# Altium schematic symbol library PBL - Capacitors.SCHLIB: 89 symbols (part 1 of 2)
Pins are listed as number, name and electrical type; pins without a type are passive.

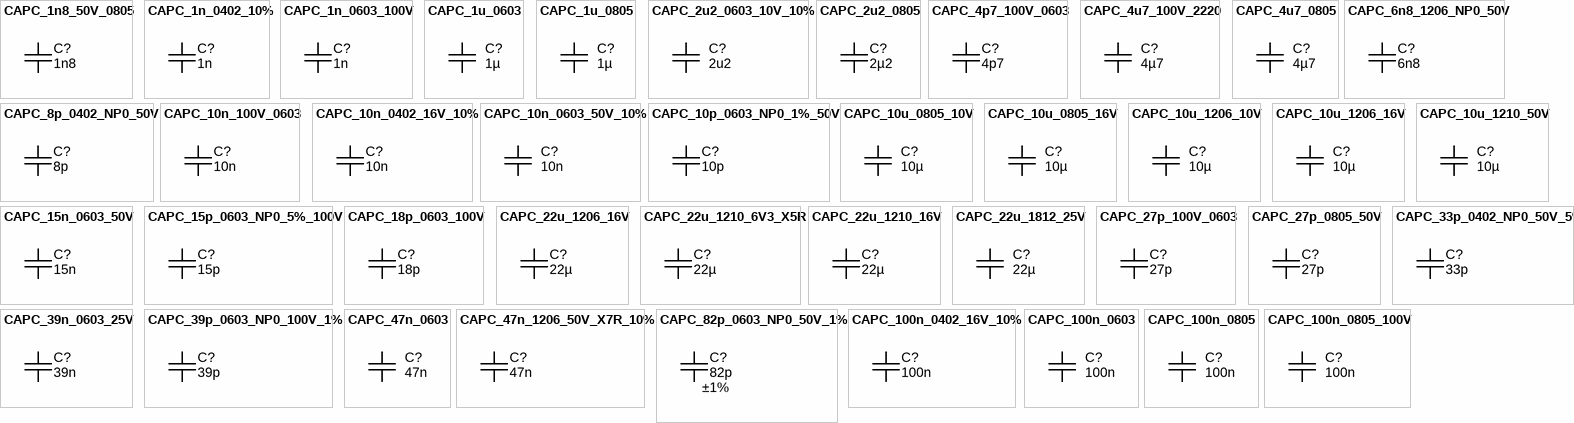
[diagram p0: symbols CAPC_1n8_50V_0805 to CAPC_100n_0805_100V]

## CAPC_1n8_50V_0805
designator C?, comment value 1n8  (hidden comment: approved sub OK)
Capacitor SMD Cer 1.8nF 10% 50V X7R 0805; Manufacturer 1: AVX Corporation; Manufacturer Part Number 1: 08055C182KAT2A; Ratings: 50V; X7R; Tolerance: ±10%; Operating Temperature: -55°C ~ 125°C; Package / Case: 0805 (2012 metric); Supplier 1: Digi-Key; Supplier Part Number 1: 478-1374-1-ND
footprint CAPC2012N (Chip Capacitor, Body 2.0x1.2mm, 0805, IPC Medium Density)
pins: 1, 2

## CAPC_1n_0402_10%
designator C?, comment 1n
Capacitor SMD Cer 1nF 10% 16V X7R 0402; Manufacturer 1: AVX Corporation; Manufacturer Part Number 1: 0402YC102KAT2A; Ratings: 16V; X7R; Tolerance: ±10%; Operating Temperature: -55°C ~ 125°C; Package / Case: 0402 (1005 Metric); Size / Dimension: 0.039" L x 0.020" W (1.00mm x 0.50mm); Manufacturer 2: Yageo; Manufacturer Part Number 2: CC0402KRX7R7BB102; Supplier 1: Digi-Key; Supplier Part Number 1: 478-6197-1-ND; ComponentLink1URL: http://www.avx.com/docs/Catalogs/cx7r.pdf; ComponentLink1Description: http://www.avx.com/docs/Catalogs/cx7r.pdf; Supplier 2: Digi-Key; Supplier Part Number 2: 311-1352-1-ND; ComponentLink2URL: http://www.yageo.com/documents/recent/UPY-GPHC_X7R_6.3V-to-50V_8.pdf; ComponentLink2Description: http://www.yageo.com/documents/recent/UPY-GPHC_X7R_6.3V-to-50V_8.pdf; Value: 1n
footprint CAPC1005N (Chip Capacitor, Body 1.0x0.5mm, 0402, IPC Medium Density)
pins: 1, 2

## CAPC_1n_0603_100V
designator C?, comment value 1n  (hidden comment: approved sub OK)
Capacitor SMD Cer 1nF 10% 100V X7R 0603; Manufacturer 1: Murata Electronics North America; Manufacturer Part Number 1: GCM188R72A102KA37D; Ratings: 100V; X7R; Material: ceramic; Package / Case: 0603 (1608 metric); Tolerance: ±10%; Supplier 1: Digi-Key; Supplier Part Number 1: 490-4780-1-ND; Operating Temperature: -55°C ~ 125°C; Size / Dimension: 0.063" L x 0.031" W (1.60mm x 0.80mm); Thickness (Max): 0.035" (0.90mm); ComponentLink1URL: http://search.murata.co.jp/Ceramy/image/img/PDF/ENG/GCM188R72A102KA37.pdf; ComponentLink1Description: http://search.murata.co.jp/Ceramy/image/img/PDF/ENG/GCM188R72A102KA37.pdf
footprint CAPC1608N (Chip Capacitor, Body 1.6x0.8mm, 0603, IPC Medium Density)
pins: 1, 2

## CAPC_1u_0603
designator C?, comment value 1µ  (hidden comment: approved sub OK)
Capacitor SMD Cer 1uF 10% 16V X7R 0603; Manufacturer 1: TDK Corporation; Manufacturer Part Number 1: C1608X7R1C105K; Ratings: 16V; X7R; Material: ceramic; Package / Case: 0603 (1608 metric); Tolerance: ±10%; Supplier 1: Digi-Key; Supplier Part Number 1: 445-1604-1-ND
footprint CAPC1608N (Chip Capacitor, Body 1.6x0.8mm, IPC Medium Density)
pins: 1, 2

## CAPC_1u_0805
designator C?, comment value 1µ  (hidden comment: approved sub OK)
Capacitor SMD Cer 1uF 10% 16V X7R 0805; Manufacturer 1: TDK Corporation; Manufacturer Part Number 1: C2012X7R1C105K/1.25; Ratings: 16V; X7R; Material: ceramic; Package / Case: 0805 (2012 metric); Tolerance: ±10%; Supplier 1: Digi-Key; Supplier Part Number 1: 445-1358-1-ND
footprint CAPC2012N (Chip Capacitor, Body 2.0x1.2mm, 0805, IPC Medium Density)
pins: 1, 2

## CAPC_2u2_0603_10V_10%
designator C?, comment value 2u2  (hidden comment: approved sub OK)
Capacitor SMD Cer 2.2uF 10% 10V X5R 0603; Manufacturer 1: AVX Corporation; Manufacturer Part Number 1: 0603ZD225KAT2A; Ratings: 10V; X5R; Material: ceramic; Package / Case: 0603 (1608 metric); Tolerance: ±10%; Supplier 1: Digi-Key; Supplier Part Number 1: 478-6212-1-ND; ComponentLink1URL: http://www.avx.com/docs/Catalogs/cx5r.pdf; ComponentLink1Description: http://www.avx.com/docs/Catalogs/cx5r.pdf
footprint CAPC1608N (Chip Capacitor, Body 1.6x0.8mm, 0603, IPC Medium Density)
pins: 1, 2

## CAPC_2u2_0805
designator C?, comment value 2µ2  (hidden comment: approved sub OK)
Capacitor SMD Cer 2.2uF 10% 16V X7R 0805; Manufacturer 1: Kemet; Manufacturer Part Number 1: C0805C225K4RACTU; Ratings: 16V; X7R; Supplier 1: Digi-Key; Supplier Part Number 1: 399-3523-1-ND; Tolerance: ±10%; Package / Case: 0805 (2012 metric)
footprint CAPC2012N (Chip Capacitor, Body 2.0x1.2mm, 0805, IPC Medium Density)
pins: 1, 2

## CAPC_4p7_100V_0603
designator C?, comment value 4p7  (hidden comment: approved sub OK)
Capacitor SMD Cer 4.7pF ±0.25pF 100V NP0 0603; Manufacturer 1: AVX Corporation; Manufacturer Part Number 1: 06031A4R7CAT2A; Ratings: 100V; NP0; Tolerance: ±0.25pF; Operating Temperature: -55°C ~ 125°C; Package / Case: 0603 (1608 metric); Supplier 1: Digi-Key; Supplier Part Number 1: 478-4992-1-ND
footprint CAPC1608N (Chip Capacitor, Body 1.6x0.8mm, 0603, IPC Medium Density)
pins: 1, 2

## CAPC_4u7_100V_2220
designator C?, comment value 4µ7  (hidden comment: approved sub OK)
Capacitor SMD Cer 4.7uF 10% 100V X7R 2220; Manufacturer: TDK Corporation; Manufacturer Part Number: C5750X7R2A475K; Ratings: 100V; X7R; Material: ceramic; Package / Case: 2220 (5750 Metric); Tolerance: ±10%; Supplier 1: Digi-Key; Supplier Part Number 1: 445-4526-1-ND
footprint CAPC5750N (Chip Capacitor, Body 5.7x5.0mm, 2220, IPC Medium Density)
pins: 1, 2

## CAPC_4u7_0805
designator C?, comment value 4µ7  (hidden comment: approved sub OK)
Capacitor SMD Cer 4.7uF 10% 16V X5R 0805; Manufacturer 1: Taiyo Yuden; Manufacturer Part Number 1: EMK212BJ475KG-T; Ratings: 16V; X5R; Material: ceramic; Package / Case: 0805 (2012 Metric); Tolerance: ±10%; Supplier 1: Digi-Key; Supplier Part Number 1: 587-1294-1-ND; Operating Temperature: -55°C ~ 85°C; Size / Dimension: 0.079" L x 0.049" W (2.00mm x 1.25mm); Thickness (Max): 0.053" (1.35mm); ComponentLink1URL: http://www.yuden.co.jp/productdata/catalog/en/mlcc01_e.pdf; ComponentLink1Description: http://www.yuden.co.jp/productdata/catalog/en/mlcc01_e.pdf
footprint CAPC2012N (Chip Capacitor, Body 2.0x1.2mm, 0805, IPC Medium Density)
pins: 1, 2

## CAPC_6n8_1206_NP0_50V
designator C?, comment 6n8
Capacitor SMD Cer 6.8nF 5% 50V NP0 1206; Manufacturer 1: TDK Corporation; Manufacturer Part Number 1: C3216C0G1H682J/0.60; Ratings: 50V; NP0; Material: Ceramic NP0; Tolerance: ±5%; Package / Case: 1206 (3216 metric); Supplier 1: Digi-Key; Supplier Part Number 1: 445-4005-1-ND; Value: 6n8
footprint CAPC3216N (Chip Capacitor, Body 3.2x1.6mm, 1206, IPC Medium Density)
pins: 1, 2

## CAPC_8p_0402_NP0_50V
designator C?, comment 8p
Capacitor SMD Cer 8pF ±0.5pF 50V NP0 0402; Manufacturer 1: Murata Electronics North America; Manufacturer Part Number 1: GRM1555C1H8R0DA01D; Ratings: 50V; NP0; Tolerance: ±0.5pF; Operating Temperature: -55°C ~ 125°C; Package / Case: 0402 (1005 Metric); Size / Dimension: 0.039" L x 0.020" W (1.00mm x 0.50mm); Supplier 1: Digi-Key; Supplier Part Number 1: 490-5867-1-ND; Supplier 2: Digi-Key; Supplier Part Number 2: 04025A8R0JAT2A-ND; Manufacturer 2: AVX Corporation; Manufacturer Part Number 2: 04025A8R0JAT2A; ComponentLink2URL: http://www.avx.com/docs/Catalogs/ccog.pdf; ComponentLink2Description: http://www.avx.com/docs/Catalogs/ccog.pdf; ComponentLink1URL: http://search.murata.co.jp/Ceramy/image/img/w_hinm/L0005E.pdf; ComponentLink1Description: http://search.murata.co.jp/Ceramy/image/img/w_hinm/L0005E.pdf; Value: 8p
footprint CAPC1005N (Chip Capacitor, Body 1.0x0.5mm, 0402, IPC Medium Density)
pins: 1, 2

## CAPC_10n_100V_0603
designator C?, comment value 10n  (hidden comment: approved sub OK)
Capacitor SMD Cer 10nF 10% 100V X7R 0603; Manufacturer: Murata Electronics North America; Manufacturer Part Number: GCM188R72A103KA37D; Ratings: 100V; X7R; Material: ceramic; Package / Case: 0603 (1608 metric); Tolerance: ±10%; Supplier 1: Digi-Key; Supplier Part Number 1: 490-4781-1-ND
footprint CAPC1608N (Chip Capacitor, Body 1.6x0.8mm, 0603, IPC Medium Density)
pins: 1, 2

## CAPC_10n_0402_16V_10%
designator C?, comment 10n
Capacitor SMD Cer 10nF 10% 16V X7R 0402; Manufacturer 1: AVX Corporation; Manufacturer Part Number 1: 0402YC103KAT2A; Ratings: 16V; X7R; Tolerance: ±10%; Operating Temperature: -55°C ~ 125°C; Package / Case: 0402 (1005 Metric); Size / Dimension: 0.039" L x 0.020" W (1.00mm x 0.50mm); Manufacturer 2: Yageo; Manufacturer Part Number 2: CC0402KRX7R7BB103; Supplier 1: Digi-Key; Supplier Part Number 1: 478-1114-1-ND; ComponentLink1URL: http://www.avx.com/docs/Catalogs/cx7r.pdf; ComponentLink1Description: http://www.avx.com/docs/Catalogs/cx7r.pdf; Supplier 2: Digi-Key; Supplier Part Number 2: 311-1042-1-ND; ComponentLink2URL: http://www.yageo.com/documents/recent/UPY-GPHC_X7R_6.3V-to-50V_8.pdf; ComponentLink2Description: http://www.yageo.com/documents/recent/UPY-GPHC_X7R_6.3V-to-50V_8.pdf; Value: 10n
footprint CAPC1005N (Chip Capacitor, Body 1.0x0.5mm, 0402, IPC Medium Density)
pins: 1, 2

## CAPC_10n_0603_50V_10%
designator C?, comment value 10n  (hidden comment: approved sub OK)
Capacitor SMD Cer 10nF 10% 50V X7R 0603; Manufacturer 1: TDK Corporation; Manufacturer Part Number 1: C1608X7R1H103K; Ratings: 50V; X7R; Material: ceramic; Package / Case: 0603 (1608 metric); Tolerance: ±10%; Supplier 1: Digi-Key; Supplier Part Number 1: 445-1311-1-ND
footprint CAPC1608N (Chip Capacitor, Body 1.6x0.8mm, 0603, IPC Medium Density)
pins: 1, 2

## CAPC_10p_0603_NP0_1%_50V
designator C?, comment 10p
Capacitor SMD Cer 10pF 5% 50V NP0 0603; Manufacturer 1: Murata Electronics North America; Manufacturer Part Number 1: GRM1885C1H100FA01J; Ratings: 50V; NP0; Tolerance: ±5%; Operating Temperature: -55°C ~ 125°C; Package / Case: 0603 (1608 Metric); Size / Dimension: 0.063" L x 0.032" W (1.60mm x 0.81mm); Thickness (Max): 0.035" (0.90mm); Supplier 1: Digi-Key; Supplier Part Number 1: GRM1885C1H100FA01J-ND; Value: 10p
footprint CAPC1608N (Chip Capacitor, Body 1.6x0.8mm, 0603, IPC Medium Density)
pins: 1, 2

## CAPC_10u_0805_10V
designator C?, comment value 10µ  (hidden comment: approved sub OK)
Capacitor SMD Cer 10uF 10% 10V X5R 0805; Manufacturer 1: AVX Corporation; Manufacturer Part Number 1: 0805ZD106KAT2A; Ratings: 10V; X5R; Material: ceramic; Package / Case: 0805 (2012 metric); Tolerance: ±10%; Manufacturer 2: Kemet; Manufacturer Part Number 2: C0805C106K8PACTU; Supplier 1: Digi-Key; Supplier Part Number 1: 478-5167-1-ND; ComponentLink1URL: http://www.avx.com/docs/Catalogs/cx5r.pdf; ComponentLink1Description: http://www.avx.com/docs/Catalogs/cx5r.pdf; ComponentLink2URL: http://www.kemet.com/datasheets&C0805C106K8PACTU; ComponentLink2Description: http://www.kemet.com/datasheets&C0805C106K8PACTU; Supplier 2: Digi-Key; Supplier Part Number 2: 399-4925-1-ND
footprint CAPC2012N (Chip Capacitor, Body 2.0x1.2mm, 0805, IPC Medium Density)
pins: 1, 2

## CAPC_10u_0805_16V
designator C?, comment value 10µ  (hidden comment: approved sub OK)
Capacitor SMD Cer 10uF 10% 16V X7R 0805; Manufacturer 1: Samsung; Manufacturer Part Number 1: CL21B106KBN; Ratings: 16V; X7R; Material: ceramic; Package / Case: 0805 (2012 metric); Tolerance: ±10%
footprint CAPC1608N (Chip Capacitor, Body 1.6x0.8mm, IPC Medium Density)
footprint CAPC3216N (Chip Capacitor, Body 3.2x1.6mm, IPC Medium Density)
footprint CAPC2012N (Chip Capacitor, Body 2.0x1.2mm, 0805, IPC Medium Density)
pins: 1, 2

## CAPC_10u_1206_10V
designator C?, comment value 10µ  (hidden comment: approved sub OK)
Capacitor SMD Cer 10uF 10% 10V X5R 1206; Manufacturer 1: KEMET; Manufacturer Part Number 1: C1206C106K8PACTU; Ratings: 10V; X5R; Material: ceramic; Package / Case: 1206 (3216 metric); Tolerance: ±10%; Supplier 1: Digi-Key; Supplier Part Number 1: C1206C106K8PACTU-ND
footprint CAPC3216N (Chip Capacitor, Body 3.2x1.6mm, 1206, IPC Medium Density)
pins: 1, 2

## CAPC_10u_1206_16V
designator C?, comment value 10µ  (hidden comment: approved sub OK)
Capacitor SMD Cer 10uF 10% 16V X7R 1206; Manufacturer 1: Kemet; Manufacturer Part Number 1: C1206C106K4RACTU; Ratings: 16V; X7R; Material: ceramic; Package / Case: 1206 (3216 metric); Tolerance: ±10%; Supplier 1: Digi-Key; Supplier Part Number 1: 399-3525-1-ND
footprint CAPC3216N (Chip Capacitor, Body 3.2x1.6mm, 1206, IPC Medium Density)
pins: 1, 2

## CAPC_10u_1210_50V
designator C?, comment 10µ
Capacitor SMD Cer 10uF 20% 16V X5R 1210; Manufacturer 1: Taiyo Yuden; Manufacturer Part Number 1: UMK325BJ106MM-T; Ratings: 50V; X5R; Material: ceramic; Package / Case: 1210 (3225 Metric); Tolerance: ±20%; Size / Dimension: 0.126" L x 0.098" W (3.20mm x 2.50mm); Supplier 1: Digi-Key; Supplier Part Number 1: 587-2225-1-ND; Value: 10µ
footprint CAPC3225N (Chip Capacitor, Body 3.2x2.5mm, 1210, IPC Medium Density)
pins: 1, 2

## CAPC_15n_0603_50V
designator C?, comment value 15n  (hidden comment: approved sub OK)
Capacitor SMD Cer 15nF 10% 50V X7R 0603; Manufacturer Part Number 1: GRM188R71H153KA01D; Manufacturer 1: Murata Electronics North America; Ratings: 50V; X7R; Tolerance: ±10%; Operating Temperature: -55°C ~ 125°C; Package / Case: 0603 (1608 metric); Supplier 1: Digi-Key; Supplier Part Number 1: 490-1514-1-ND
footprint CAPC1608N (Chip Capacitor, Body 1.6x0.8mm, 0603, IPC Medium Density)
pins: 1, 2

## CAPC_15p_0603_NP0_5%_100V
designator C?, comment 15p
Capacitor SMD Cer 15pF 5% 100V NP0 0603; Manufacturer 1: AVX Corporation; Manufacturer Part Number 1: 06031A150JAT2A; Ratings: 100V; NP0; Tolerance: ±5%; Operating Temperature: -55°C ~ 125°C; Package / Case: 0603 (1608 Metric); Size / Dimension: 0.063" L x 0.032" W (1.60mm x 0.81mm); Thickness (Max): 0.035" (0.90mm); Supplier 1: Digi-Key; Supplier Part Number 1: 478-1141-1-ND; Mounting Type: Surface Mount, MLCC; ComponentLink1URL: http://www.avx.com/docs/Catalogs/ccog.pdf; ComponentLink1Description: http://www.avx.com/docs/Catalogs/ccog.pdf; Value: 15p
footprint CAPC1608N (Chip Capacitor, Body 1.6x0.8mm, 0603, IPC Medium Density)
pins: 1, 2

## CAPC_18p_0603_100V
designator C?, comment 18p
Capacitor SMD Cer 18pF 2% 100V NP0 0603; Manufacturer 1: AVX Corporation; Manufacturer Part Number 1: 06031A180GAT2A; Ratings: 100V; NP0; Tolerance: ±2%; Operating Temperature: -55°C ~ 125°C; Package / Case: 0603 (1608 Metric); Supplier 1: Digi-Key; Supplier Part Number 1: 478-6025-1-ND; Size / Dimension: 0.063" L x 0.032" W (1.60mm x 0.81mm); Thickness (Max): 0.035" (0.90mm); ComponentLink1URL: http://www.avx.com/docs/Catalogs/ccog.pdf; ComponentLink1Description: http://www.avx.com/docs/Catalogs/ccog.pdf; Value: 18p
footprint CAPC1608N (Chip Capacitor, Body 1.6x0.8mm, 0603, IPC Medium Density)
pins: 1, 2

## CAPC_22u_1206_16V
designator C?, comment value 22µ  (hidden comment: approved sub OK)
Capacitor SMD Cer 22uF 10% 16V X7R 1206; Manufacturer 1: Murata; Manufacturer Part Number 1: GRM319R71C224KA01D; Ratings: 16V; X7R; Tolerance: ±10%; Package / Case: 1206 (3216 metric); Supplier 1: Mouser; Supplier Part Number 1: 81-GRM426X224K016D
footprint CAPC3216N (Chip Capacitor, Body 3.2x1.6mm, 1206, IPC Medium Density)
pins: 1, 2

## CAPC_22u_1210_6V3_X5R
designator C?, comment value 22µ  (hidden comment: approved sub OK)
Capacitor SMD Cer 22uF 20% 6.3V X5R 1210; Manufacturer 1: TDK Corporation; Manufacturer Part Number 1: C3225X5R0J226M/2.00; Ratings: 6.3V; X5R; Voltage - Rated: 6V3; Tolerance: ±20%; Package / Case: 1210 (3225 metric); Supplier 1: Digi-Key; Supplier Part Number 1: 445-1595-1-ND; Mounting Type: Surface Mount, MLCC; Operating Temperature: -55°C ~ 85°C; Thickness (Max): 0.087" (2.20mm); ComponentLink1URL: http://www.tdk.com/pdf/general_B11.pdf; ComponentLink1Description: http://www.tdk.com/pdf/general_B11.pdf
footprint CAPC3225N (Chip Capacitor, Body 3.2x2.5mm, 1210, IPC Medium Density)
pins: 1, 2

## CAPC_22u_1210_16V
designator C?, comment value 22µ  (hidden comment: approved sub OK)
Capacitor SMD Cer 22uF 20% 16V X7R 1210; Manufacturer: TDK Corporation; Manufacturer Part Number: C3225X7R1C226K; Ratings: 16V; X7R; Tolerance: ±20%; Package / Case: 1210 (3225 metric); Supplier 1: Digi-Key; Supplier Part Number 1: 445-3945-2-ND
footprint CAPC3225N (Chip Capacitor, Body 3.2x2.5mm, 1210, IPC Medium Density)
pins: 1, 2

## CAPC_22u_1812_25V
designator C?, comment value 22µ  (hidden comment: approved sub OK)
Capacitor SMD Cer 22uF 20% 25V X5R 1812; Manufacturer 1: TDK Corporation; Manufacturer Part Number 1: C4532X5R1E226M; Ratings: 25V; X5R; Material: ceramic; Package / Case: 1812 (4532 metric); Tolerance: ±20%; Supplier 1: Digi-Key; Supplier Part Number 1: 445-1444-1-ND
footprint CAPC4532N (Chip Capacitor, Body 4.5x3.2mm, 1812, IPC Medium Density)
pins: 1, 2

## CAPC_27p_100V_0603
designator C?, comment 27p
Capacitor SMD Cer 27pF 1% 100V NP0 0603; Manufacturer 1: AVX Corporation; Manufacturer Part Number 1: 06031A270FAT2A; Ratings: 100V; NP0; Tolerance: ±1%; Operating Temperature: -55°C ~ 125°C; Package / Case: 0603 (1608 Metric); Supplier 1: Digi-Key; Supplier Part Number 1: 478-3681-1-ND; Value: 27p
footprint CAPC1608N (Chip Capacitor, Body 1.6x0.8mm, 0603, IPC Medium Density)
pins: 1, 2

## CAPC_27p_0805_50V
designator C?, comment value 27p  (hidden comment: approved sub OK)
Capacitor SMD Cer 27pF 5% 50V X7R 0805; Manufacturer 1: Panasonic - ECG; Manufacturer Part Number 1: ECJ-2VC1H270J; Ratings: 50V; X7R; Tolerance: ±5%; Operating Temperature: -55°C ~ 125°C; Package / Case: 0805 (2012 metric); Supplier 1: Digi-Key; Supplier Part Number 1: PCC270CGCT-ND
footprint CAPC2012N (Chip Capacitor, Body 2.0x1.2mm, 0805, IPC Medium Density)
pins: 1, 2

## CAPC_33p_0402_NP0_50V_5%
designator C?, comment 33p
Capacitor SMD Cer 33pF 5% 50V NP0 0402; Manufacturer 1: AVX Corporation; Manufacturer Part Number 1: 04025A330JAT2A; Ratings: 50V; NP0; Tolerance: ±5%; Operating Temperature: -55°C ~ 125°C; Package / Case: 0402 (1005 Metric); Size / Dimension: 0.039" L x 0.020" W (1.00mm x 0.50mm); Manufacturer 2: Yageo; Manufacturer Part Number 2: CC0402JRNPO9BN330; Thickness (Max): 0.022" (0.55mm); Supplier 1: Digi-Key; Supplier Part Number 1: 478-1076-1-ND; ComponentLink1URL: http://www.avx.com/docs/Catalogs/ccog.pdf; ComponentLink1Description: http://www.avx.com/docs/Catalogs/ccog.pdf; ComponentLink2URL: http://www.yageo.com/documents/recent/UPY-GP_NP0_16V-to-50V_8.pdf; ComponentLink2Description: http://www.yageo.com/documents/recent/UPY-GP_NP0_16V-to-50V_8.pdf; Supplier 2: Digi-Key; Supplier Part Number 2: 311-1020-1-ND; Value: 33p
footprint CAPC1005N (Chip Capacitor, Body 1.0x0.5mm, 0402, IPC Medium Density)
pins: 1, 2

## CAPC_39n_0603_25V
designator C?, comment value 39n  (hidden comment: approved sub OK)
Capacitor SMD Cer 39nF 10% 25V X7R 0603; Manufacturer 1: Kemet; Manufacturer Part Number 1: C0603C393K3RACTU; Ratings: 100V; X7R; Material: ceramic; Package / Case: 0603 (1608 Metric); Tolerance: ±10%; Supplier 1: Digi-Key; Operating Temperature: -55°C ~ 125°C; Size / Dimension: 0.063" L x 0.031" W (1.60mm x 0.80mm); Thickness (Max): 0.035" (0.90mm); Temperature Coefficient: X7R; Voltage - Rated: 25V; Supplier Part Number 1: 399-7914-1-ND
footprint CAPC1608N (Chip Capacitor, Body 1.6x0.8mm, 0603, IPC Medium Density)
pins: 1, 2

## CAPC_39p_0603_NP0_100V_1%
designator C?, comment 39p
Capacitor SMD Cer 39pF 1% 100V NP0 0603; Manufacturer 1: AVX Corporation; Manufacturer Part Number 1: 06031A390FAT2A; Ratings: 100V; NP0; Tolerance: ±1%; Operating Temperature: -55°C ~ 125°C; Package / Case: 0603 (1608 Metric); Supplier 1: Digi-Key; Supplier Part Number 1: 478-5773-1-ND; Value: 39p
footprint CAPC1608N (Chip Capacitor, Body 1.6x0.8mm, 0603, IPC Medium Density)
pins: 1, 2

## CAPC_47n_0603
designator C?, comment 47n
Capacitor SMD Cer 47nF 10% 50V X7R 0603; Manufacturer 1: Samsung; Manufacturer Part Number 1: CL10B473KBN; Ratings: 50V; X7R; Material: ceramic; Package / Case: 0603 (1608 metric); Tolerance: ±10%; Value: 47n
footprint CAPC1608N (Chip Capacitor, Body 1.6x0.8mm, IPC Medium Density)
footprint CAPC3216N (Chip Capacitor, Body 3.2x1.6mm, IPC Medium Density)
footprint CAPC2012N (Chip Capacitor, Body 2.0x1.2mm, IPC Medium Density)
pins: 1, 2

## CAPC_47n_1206_50V_X7R_10%
designator C?, comment 47n
Capacitor SMD Cer 47nF 10% 50V 1206; Manufacturer 1: Yageo; Manufacturer Part Number 1: CC1206KRX7R9BB473; Ratings: 50V; X7R; Package / Case: 1206 (3216 Metric); Tolerance: ±10%; Operating Temperature: -55°C ~ 125°C; Size / Dimension: 0.126" L x 0.063" W (3.20mm x 1.60mm); Supplier 1: Digi-Key; Voltage - Rated: 50V; Supplier Part Number 1: 311-1178-1-ND; Value: 47n
footprint CAPC3216N (Chip Capacitor, Body 3.2x1.6mm, 1206, IPC Medium Density)
pins: 1, 2

## CAPC_82p_0603_NP0_50V_1%
designator C?, comment Tolerance: ±1%  (hidden comment: 82p)
Capacitor SMD Cer 82pF 1% 50V NP0 0603; Manufacturer 1: Kemet; Manufacturer Part Number 1: C0603C820F5GACTU; Ratings: 50V; NP0; Operating Temperature: -55°C ~ 125°C; Package / Case: 0603 (1608 Metric); Size / Dimension: 0.063" L x 0.031" W (1.60mm x 0.80mm); Thickness (Max): 0.034" (0.87mm); Supplier 1: Digi-Key; Supplier Part Number 1: 399-7959-1-ND; ComponentLink1URL: http://www.kemet.com/datasheets&C0603C820F5GACTU; ComponentLink1Description: http://www.kemet.com/datasheets&C0603C820F5GACTU; Value: 82p
footprint CAPC1608N (Chip Capacitor, Body 1.6x0.8mm, 0603, IPC Medium Density)
pins: 1, 2

## CAPC_100n_0402_16V_10%
designator C?, comment 100n
Capacitor SMD Cer 100nF 10% 16V X5R 0402; Manufacturer 1: AVX Corporation; Manufacturer Part Number 1: 0402YD104KAT2A; Ratings: 16V; X7R; Tolerance: ±10%; Operating Temperature: -55°C ~ 125°C; Package / Case: 0402 (1005 Metric); Size / Dimension: 0.039" L x 0.020" W (1.00mm x 0.50mm); Supplier 1: Digi-Key; Supplier Part Number 1: 478-1126-1-ND; ComponentLink1URL: http://www.avx.com/docs/Catalogs/cx5r.pdf; ComponentLink1Description: http://www.avx.com/docs/Catalogs/cx5r.pdf; Supplier 2: Digi-Key; Supplier Part Number 2: 311-1347-1-ND; Manufacturer 2: Yageo; Manufacturer Part Number 2: CC0402KRX5R7BB104; ComponentLink2URL: http://www.yageo.com/documents/recent/UPY-GPHC_X5R_4V-to-50V_12.pdf; ComponentLink2Description: http://www.yageo.com/documents/recent/UPY-GPHC_X5R_4V-to-50V_12.pdf; Value: 100n
footprint CAPC1005N (Chip Capacitor, Body 1.0x0.5mm, 0402, IPC Medium Density)
pins: 1, 2

## CAPC_100n_0603
designator C?, comment value 100n  (hidden comment: approved sub OK)
Capacitor SMD Cer 100nF 10% 50V X7R 0603; Manufacturer 1: AVX Corporation; Manufacturer Part Number 1: 06035C104KAT2A; Ratings: 50V; X7R; Material: ceramic; Manufacturer 2: TDK Corporation; Manufacturer Part Number 2: C1608X7R1H104K; Package / Case: 0603 (1608 Metric); Tolerance: ±10%; Supplier 1: Digi-Key; Supplier Part Number 1: 478-5052-1-ND; ComponentLink1URL: http://www.avx.com/docs/Catalogs/cx7r.pdf; ComponentLink1Description: http://www.avx.com/docs/Catalogs/cx7r.pdf; Supplier 2: Digi-Key; Supplier Part Number 2: 445-1314-1-ND; ComponentLink2URL: http://product.tdk.com/capacitor/mlcc/en/documents/mlcc_commercial_general_en.pdf; ComponentLink2Description: http://product.tdk.com/capacitor/mlcc/en/documents/mlcc_commercial_general_en.pdf
footprint CAPC1608N (Chip Capacitor, Body 1.6x0.8mm, 0603, IPC Medium Density)
pins: 1, 2

## CAPC_100n_0805
designator C?, comment value 100n  (hidden comment: approved sub OK)
Capacitor SMD Cer 100nF 10% 50V X7R 0805; Manufacturer 1: Kemet; Manufacturer Part Number 1: C0805C104K5RACTU; Ratings: 50V; X7R; Material: ceramic; Package / Case: 0805 (2012 metric); Tolerance: ±10%; Supplier 1: Digi-Key; Supplier Part Number 1: 399-1170-1-ND
footprint CAPC1608N (Chip Capacitor, Body 1.6x0.8mm, IPC Medium Density)
footprint CAPC3216N (Chip Capacitor, Body 3.2x1.6mm, IPC Medium Density)
footprint CAPC2012N (Chip Capacitor, Body 2.0x1.2mm, IPC Medium Density)
pins: 1, 2

## CAPC_100n_0805_100V
designator C?, comment value 100n  (hidden comment: approved sub OK)
Capacitor SMD Cer 100nF 10% 100V X7R 0805; Manufacturer 1: TDK Corporation; Manufacturer Part Number 1: C2012X7R2A104K; Ratings: 100V; X7R; Material: ceramic; Package / Case: 0805; Tolerance: ±10%; Supplier 1: Digi-Key; Supplier Part Number 1: 445-1418-1-ND
footprint CAPC2012N (Chip Capacitor, Body 2.0x1.2mm, IPC Medium Density)
pins: 1, 2

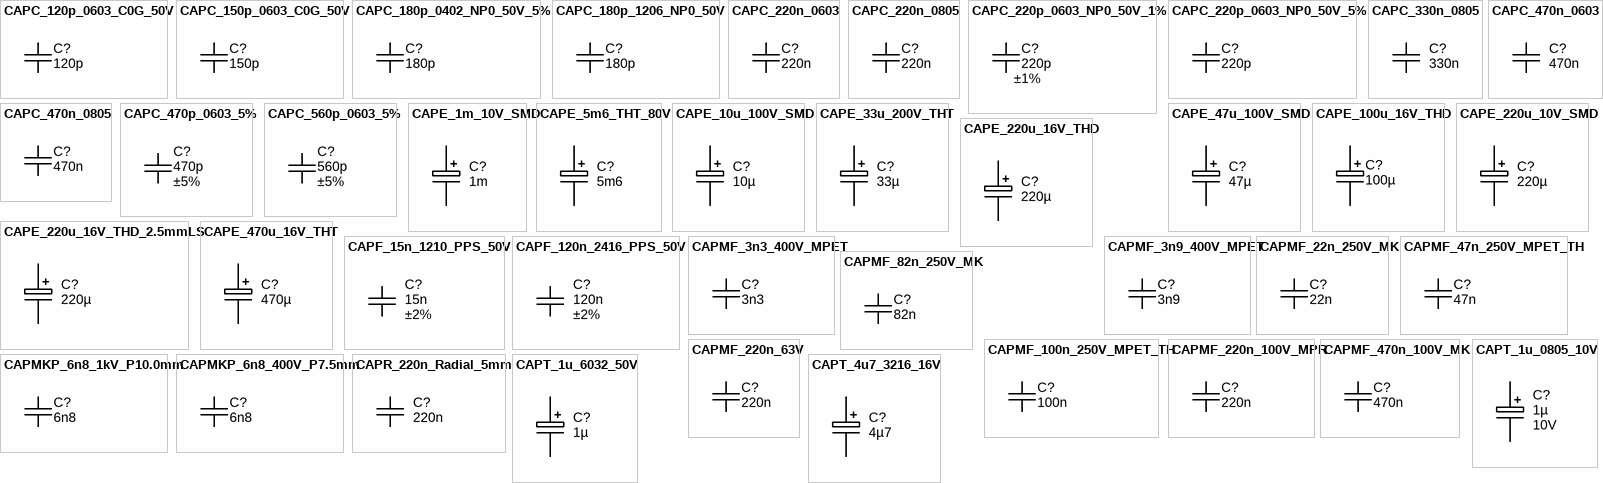
[diagram p1: symbols CAPC_120p_0603_C0G_50V to CAPT_4u7_3216_16V]

## CAPC_120p_0603_C0G_50V
designator C?, comment 120p
Capacitor SMD Cer 120pF 10% 50V C0G 0603; Manufacturer 1: Kemet; Manufacturer Part Number 1: C0603C121K5GACTU; Ratings: 50V; C0G; Tolerance: ±10%; Operating Temperature: -55°C ~ 125°C; Package / Case: 0603 (1608 Metric); Supplier 1: Mouser; Supplier Part Number 1: 80-C0603C121K5G; Value: 120p
footprint CAPC1608N (Chip Capacitor, Body 1.6x0.8mm, 0603, IPC Medium Density)
pins: 1, 2

## CAPC_150p_0603_C0G_50V
designator C?, comment 150p
Capacitor SMD Cer 150pF 10% 50V C0G 0603; Manufacturer 1: Kemet; Manufacturer Part Number 1: C0603C151K5GACTU; Ratings: 50V; C0G; Tolerance: ±10%; Operating Temperature: -55°C ~ 125°C; Package / Case: 0603 (1608 Metric); Supplier 1: Mouser; Supplier Part Number 1: 80-C0603C151K5G; Value: 150p
footprint CAPC1608N (Chip Capacitor, Body 1.6x0.8mm, 0603, IPC Medium Density)
pins: 1, 2

## CAPC_180p_0402_NP0_50V_5%
designator C?, comment 180p
Capacitor SMD Cer 180pF 5% 50V NP0 0402; Manufacturer 1: AVX Corporation; Manufacturer Part Number 1: 04025A181JAT2A; Ratings: 50V; NP0; Tolerance: ±5%; Operating Temperature: -55°C ~ 125°C; Package / Case: 0402 (1005 Metric); Size / Dimension: 0.039" L x 0.020" W (1.00mm x 0.50mm); Manufacturer 2: Murata Electronics North America; Manufacturer Part Number 2: GRM1555C1H181JA01D; Supplier 1: Digi-Key; Supplier Part Number 1: 478-1085-1-ND; ComponentLink1URL: http://www.avx.com/docs/Catalogs/ccog.pdf; ComponentLink1Description: http://www.avx.com/docs/Catalogs/ccog.pdf; Supplier 2: Digi-Key; Supplier Part Number 2: 490-3231-1-ND; ComponentLink2URL: http://psearch.murata.com/capacitor/product/GRM1555C1H181JA01#.pdf; ComponentLink2Description: http://psearch.murata.com/capacitor/product/GRM1555C1H181JA01#.pdf; Value: 180p
footprint CAPC1005N (Chip Capacitor, Body 1.0x0.5mm, 0402, IPC Medium Density)
pins: 1, 2

## CAPC_180p_1206_NP0_50V
designator C?, comment 180p
Capacitor SMD Cer 180pF 10% 50V NP0 1206; Manufacturer 1: Kemet; Manufacturer Part Number 1: C1206C181K5GACTU; Ratings: 50V; NP0; Tolerance: ±10%; Operating Temperature: -55°C ~ 125°C; Package / Case: 1206 (3216 Metric); Supplier 1: Digi-Key; Supplier Part Number 1: C1206C181K5GACTU-ND; Value: 180p
footprint CAPC3216N (Chip Capacitor, Body 3.2x1.6mm, 1206, IPC Medium Density)
pins: 1, 2

## CAPC_220n_0603
designator C?, comment value 220n  (hidden comment: approved sub OK)
Capacitor SMD Cer 220nF 10% 16V X7R 0603; Manufacturer 1: TDK Corporation; Manufacturer Part Number 1: C1608X7R1C224K; Ratings: 16V; X7R; Tolerance: ±10%; Package / Case: 0603 (1608 metric); Supplier 1: Digi-Key; Supplier Part Number 1: 445-1318-1-ND
footprint CAPC1608N (Chip Capacitor, Body 1.6x0.8mm, 0603, IPC Medium Density)
pins: 1, 2

## CAPC_220n_0805
designator C?, comment value 220n  (hidden comment: approved sub OK)
Capacitor SMD Cer 220nF 10% 25V X7R 0805; Manufacturer 1: Murata Electronics North America; Manufacturer Part Number 1: GRM219R71E224KA01D; Ratings: 25V; X7R; Tolerance: ±10%; Package / Case: 0805 (2012 metric); Supplier 1: Digi-Key; Supplier Part Number 1: 490-1675-1-ND
footprint CAPC2012N (Chip Capacitor, Body 2.0x1.2mm, 0805, IPC Medium Density)
pins: 1, 2

## CAPC_220p_0603_NP0_50V_1%
designator C?, comment Tolerance: ±1%  (hidden comment: 220p)
Capacitor SMD Cer 220pF 1% 50V NP0 0603; Manufacturer 1: AVX Corporation; Manufacturer Part Number 1: 06035A221FAT2A; Ratings: 50V; NP0; Operating Temperature: -55°C ~ 125°C; Package / Case: 0603 (1608 Metric); Size / Dimension: 0.063" L x 0.031" W (1.60mm x 0.80mm); Thickness (Max): 0.037" (0.95mm); Manufacturer 2: TDK Corporation; Manufacturer Part Number 2: C1608C0G1H221F080AA; Supplier 1: Digi-Key; Supplier Part Number 1: 478-3719-1-ND; ComponentLink1URL: http://www.avx.com/docs/Catalogs/ccog.pdf; ComponentLink1Description: http://www.avx.com/docs/Catalogs/ccog.pdf; Supplier 2: Digi-Key; Supplier Part Number 2: 445-5369-1-ND; ComponentLink2URL: http://www.tdk.com/pdf/tight_tol_B11.pdf; ComponentLink2Description: http://www.tdk.com/pdf/tight_tol_B11.pdf; Supplier 3: Digi-Key; Supplier Part Number 3: 399-7876-1-ND; Manufacturer 3: Kemet; Manufacturer Part Number 3: C0603C221F5GACTU; ComponentLink3URL: http://www.kemet.com/datasheets&C0603C221F5GACTU; ComponentLink3Description: http://www.kemet.com/datasheets&C0603C221F5GACTU; Value: 220p
footprint CAPC1608N (Chip Capacitor, Body 1.6x0.8mm, 0603, IPC Medium Density)
pins: 1, 2

## CAPC_220p_0603_NP0_50V_5%
designator C?, comment 220p
Capacitor SMD Cer 220pF 5% 50V NP0 0603; Manufacturer 1: Murata Electronics North America; Manufacturer Part Number 1: GRM1885C1H221JA01D; Ratings: 50V; NP0; Material: Ceramic NP0; Tolerance: ±5%; Package / Case: 0603 (1608 metric); Supplier 1: Digi-Key; Supplier Part Number 1: 490-1435-1-ND; Value: 220p
footprint CAPC1608N (Chip Capacitor, Body 1.6x0.8mm, 0603, IPC Medium Density)
pins: 1, 2

## CAPC_330n_0805
designator C?, comment value 330n  (hidden comment: approved sub OK)
Capacitor SMD Cer 330nF 10% 25V X7R 0805; Manufacturer: Kemet; Manufacturer Part Number: C0805C334K3RACTU; Ratings: 25V; X7R; Material: ceramic; Package / Case: 0805 (2012 metric); Tolerance: ±10%; Supplier 1: Mouser; Supplier Part Number 1: 80-C0805C334K3R
footprint CAPC2012N (Chip Capacitor, Body 2.0x1.2mm, 0805, IPC Medium Density)
pins: 1, 2

## CAPC_470n_0603
designator C?, comment 470n
Capacitor SMD Cer 470nF 10% 16V X7R 0603; Manufacturer 1: TDK Corporation; Manufacturer Part Number 1: C1608X7R1C474K; Ratings: 16V; X7R; Material: ceramic; Manufacturer 2: Murata Electronics North America; Manufacturer Part Number 2: GRM188R71C474KA88D; Package / Case: 0603 (1608 metric); Tolerance: ±10%; Supplier 1: Digi-Key; Supplier Part Number 1: 490-3295-2-ND; Supplier 2: Digi-Key; Supplier Part Number 2: 445-5192-2-ND; Supplier 3: Digi-Key; Supplier Part Number 3: 587-1250-2-ND; Manufacturer 3: Taiyo Yuden; Manufacturer Part Number 3: EMK107B7474KA-T; Manufacturer 4: Samsung; Manufacturer Part Number 4: CL10B474KONE; Value: 470n
footprint CAPC1608N (Chip Capacitor, Body 1.6x0.8mm, 0603, IPC Medium Density)
pins: 1, 2

## CAPC_470n_0805
designator C?, comment value 470n  (hidden comment: approved sub OK)
Capacitor SMD Cer 470nF 10% 16V X7R 0805; Manufacturer 1: AVX Corporation; Manufacturer Part Number 1: 0805YC474KAT2A; Ratings: 16V; X7R; Supplier 1: Digi-Key; Supplier Part Number 1: 478-1403-1-ND; Tolerance: ±10%; Operating Temperature: -55°C ~ 125°C; Package / Case: 0805 (2012 metric)
footprint CAPC2012N (Chip Capacitor, Body 2.0x1.2mm, 0805, IPC Medium Density)
pins: 1, 2

## CAPC_470p_0603_5%
designator C?, comment value 470p  Tolerance: ±5%  (hidden comment: approved sub OK)
Capacitor SMD Cer 470pF 5% 50V NP0 0603; Manufacturer 1: AVX Corporation; Manufacturer Part Number 1: 06035A471JAT2A; Ratings: 50V; NP0; Material: ceramic; Package / Case: 0603 (1608 metric); Supplier 1: Digi-Key; Supplier Part Number 1: 478-1183-1-ND; Capacitance: 470pF; Voltage - Rated: 50V; Mounting Type: Surface Mount, MLCC; Operating Temperature: -55°C ~ 125°C; Applications: General Purpose; Size / Dimension: 0.063" L x 0.032" W (1.60mm x 0.81mm); Height - Seated (Max): -; Thickness (Max): 0.035" (0.90mm); Lead Spacing: -; Lead Style: -; ComponentLink1URL: http://www.avx.com/docs/Catalogs/ccog.pdf; ComponentLink1Description: http://www.avx.com/docs/Catalogs/ccog.pdf
footprint CAPC1608N (Chip Capacitor, Body 1.6x0.8mm, 0603, IPC Medium Density)
pins: 1, 2

## CAPC_560p_0603_5%
designator C?, comment value 560p  Tolerance: ±5%  (hidden comment: approved sub OK)
Capacitor SMD Cer 560pF 5% 50V NP0 0603; Manufacturer 1: AVX Corporation; Manufacturer Part Number 1: 06035A561JAT2A; Ratings: 50V; NP0; Material: ceramic; Capacitance: 470pF; Package / Case: 0603 (1608 metric); Voltage - Rated: 50V; Mounting Type: Surface Mount, MLCC; Operating Temperature: -55°C ~ 125°C; Applications: General Purpose; Size / Dimension: 0.063" L x 0.032" W (1.60mm x 0.81mm); Height - Seated (Max): -; Thickness (Max): 0.035" (0.90mm); Lead Spacing: -; Lead Style: -; ComponentLink1URL: http://www.avx.com/docs/Catalogs/ccog.pdf; ComponentLink1Description: http://www.avx.com/docs/Catalogs/ccog.pdf; Supplier 1: Digi-Key; Supplier Part Number 1: 478-1184-1-ND
footprint CAPC1608N (Chip Capacitor, Body 1.6x0.8mm, 0603, IPC Medium Density)
pins: 1, 2

## CAPE_1m_10V_SMD
designator C?, comment 1m
Capacitor SMD Alum Elec 1mF 20% 10V; Manufacturer 1: Panasonic - ECG; Manufacturer Part Number 1: EEE-FK1A102P; Ratings: 10V; 105°C; Material: Al; Impedance: 80 mOhm; Package / Case: Radial - Surface Mount; Tolerance: ±20%; Supplier 1: Digi-Key; Supplier Part Number 1: PCE3772CT-ND; Height - Seated (Max): 0.402" (10.20mm); Size / Dimension: 0.394" Dia (10.00mm); Value: 1m
footprint CAP_ELEC_Size G (Capacitor, polarized, aluminum can; 10.0x10.2mm DxH)
pins: 1, 2

## CAPE_5m6_THT_80V
designator C?, comment 5m6
Capacitor THT Electrolytic 5600uF 20% 80V; Manufacturer 1: Panasonic - ECG; Manufacturer Part Number 1: ECO-S1KP562DA; Material: Aluminum Electrolytic; Package / Case: 30.00mm Dia x 45.00mm H; Ratings: 80V; Tolerance: ±20%; Supplier 1: Digi-Key; Supplier Part Number 1: P7374-ND; Value: 5m6
footprint CAPE10.0MM_Rad_30x45mm (Footprint not found)
pins: 1, 2

## CAPE_10u_100V_SMD
designator C?, comment 10µ
Capacitor SMD Electrolytic 10uF 20% 100V Radial; Manufacturer: Panasonic - ECG; Manufacturer Part Number: EEE-2AA100UP; Material: Aluminum Electrolytic; Package / Case: Radial - Surface Mount; Ratings: 100V; Tolerance: ±20%; Supplier 1: Digi-Key; Supplier Part Number 1: PCE3966CT-ND; Value: 10µ
footprint CAP_ELEC_Size E (Capacitor, polarized, aluminum can; 8.0x6.2mm DxH)
pins: 1, 2

## CAPE_33u_200V_THT
designator C?, comment 33µ
Capacitor THT Alum Elec 33uF 20% 200V; Manufacturer 1: Panasonic - ECG; Manufacturer Part Number 1: EEU-ED2D330; Ratings: 200V; 105°C; Material: Al; Package / Case: Radial; Tolerance: ±20%; Supplier 1: Digi-Key; Supplier Part Number 1: P13523-ND; Value: 33µ
footprint CAPE5.0mm
pins: 1, 2

## CAPE_47u_100V_SMD
designator C?, comment 47µ
Capacitor SMD Electrolytic 47uF 20% 100V Radial; Manufacturer 1: Panasonic - ECG; Manufacturer Part Number 1: EEV-TG2A470Q; Material: Aluminum Electrolytic; Package / Case: Radial - Surface Mount; Ratings: 100V; Tolerance: ±20%; Supplier 1: Digi-Key; Supplier Part Number 1: PCE3701CT-ND; Value: 47µ
footprint CAP_ELEC_Size H13 (Capacitor, polarized, aluminum can; 12.5x13.5mm DxH)
pins: 1, 2

## CAPE_100u_16V_THD
designator C?, comment 100µ
Capacitor THD Electrolytic 100uF 20% 16V Radial; Manufacturer: Panasonic - ECG; Manufacturer Part Number: ECA-1CM101; Material: Aluminum Electrolytic; Package / Case: Radial - Through hole; Ratings: 16V; Tolerance: ±20%; Supplier 1: Digi-Key; Supplier Part Number 1: P5138-ND; Value: 100µ
footprint CAPAE200P550X1200_FLAT2
pins: 1, 2

## CAPE_220u_10V_SMD
designator C?, comment 220µ
Capacitor SMD Alum Elec 220uF 20% 10V; Manufacturer 1: Panasonic - ECG; Manufacturer Part Number 1: EEE-FK1A221P; Ratings: 10V; 105°C; Material: Al; Package / Case: Radial - Surface Mount; Tolerance: ±20%; Supplier 1: Digi-Key; Supplier Part Number 1: PCE3775CT-ND; Value: 220µ
footprint CAP_ELEC_Size E (Capacitor, polarized, aluminum can; 6.20mm L X 8mm D)
pins: 1, 2

## CAPE_220u_16V_THD
designator C?, comment 220µ
Capacitor THT Alum Elec 220uF 20% 16V; Manufacturer 1: Nichicon; Manufacturer Part Number 1: UPW1C221MPD; Ratings: 16V; 80°C; Material: Al; Manufacturer 2: Zhuhai Gree Xinyuan Electric; Manufacturer Part Number 2: CD11C-220-16V; Package / Case: radial 8.0D x 7.0H x 3.5mm pitch; Tolerance: ±20%; Supplier 1: Digi-Key; Supplier Part Number 1: 493-1783-ND; Value: 220µ
footprint CAPE3.5mm
pins: 1, 2

## CAPE_220u_16V_THD_2.5mmLS
designator C?, comment 220µ
Capacitor THT Alum Elec 220uF 20% 16V 2.5mmLS; Manufacturer 1: Nichicon; Manufacturer Part Number 1: UVR1C221MED; Ratings: 16V; 80°C; Material: Al; Package / Case: radial 6.3D x 11.0H x 2.5mm pitch; Tolerance: ±20%; Supplier 1: Digi-Key; Supplier Part Number 1: 493-1041-ND; Value: 220µ
footprint CAPE2.5mm_max6.8x12.5mm
pins: 1, 2

## CAPE_470u_16V_THT
designator C?, comment 470µ
Capacitor THT Alum Elec 470uF 20% 16V; Manufacturer 1: NICHICON; Manufacturer Part Number 1: UHM1C471MPD6; Ratings: 16V; 105°C; Material: Al Electrolytic; Package / Case: Radial; Tolerance: ±20%; Supplier 1: Newark; Supplier Part Number 1: 54K8151; Manufacturer 2: JD; Manufacturer Part Number 2: GT470UF16V_10x12mm; Value: 470µ
footprint CAPE10.0MM_Rad_10x14mm (10mm Pitch Radial Capacitor 10x14mm DxH)
pins: 1, 2

## CAPF_15n_1210_PPS_50V
designator C?, comment value 15n  Tolerance: ±2%  (hidden comment: Polyphenylene Sulphide (PPS))
Capacitor SMD PPS Film 15nF 2% 50V 1210; Manufacturer 1: Panasonic - ECG; Manufacturer Part Number 1: ECH-U1H153GX5; Ratings: 50 V; PPS Film; Package / Case: 1210 (3225 Metric); Material: Polyphenylene Sulphide (PPS); Supplier 1: Digi-Key; Supplier Part Number 1: PCF1310CT-ND; Voltage Rating - DC: 50V; Operating Temperature: -55°C ~ 125°C; Mounting Type: Surface Mount; ComponentLink1URL: http://industrial.panasonic.com/www-cgi/jvcr13pz.cgi?E+PZ+3+ABD0013+ECHU1H153GX5+7+WW; ComponentLink1Description: http://industrial.panasonic.com/www-cgi/jvcr13pz.cgi?E+PZ+3+ABD0013+ECHU1H153GX5+7+WW; Height - Seated (Max): 0.051" (1.30mm)
footprint CAPC3225N (Chip Capacitor, Body 3.2x2.5mm, 1210, IPC Medium Density)
pins: 1, 2

## CAPF_120n_2416_PPS_50V
designator C?, comment value 120n  Tolerance: ±2%  (hidden comment: Polyphenylene Sulphide (PPS))
Capacitor SMD PPS Film 120nF 2% 50V 2416; Manufacturer 1: Panasonic - ECG; Manufacturer Part Number 1: ECH-U1H124GX9; Ratings: 50 V; PPS Film; Package / Case: 2416 (6041 Metric); Supplier 1: Digi-Key; Supplier Part Number 1: PCF1553CT-ND; Material: Polyphenylene Sulphide (PPS)
footprint CAPC6041X210N (Stacked film capacitor, Body 6.0x4.1mm, 2416, IPC Nominal settings)
pins: 1, 2

## CAPMF_3n3_400V_MPET
designator C?, comment 3n3
Capacitor THD Metallized PET Film 3.3nF 10% 400V; Manufacturer 1: Wing Fu Technology; Manufacturer Part Number 1: CL21-332-K-400V-7.5; Material: Metallized Polyester; Package / Case: 10.5L x 6.0W x 9.0H x 7.5mm Pitch; Tolerance: ±10%; Ratings: 400V; Value: 3n3
footprint CAPMF5.0-7.5mm_SL (Capacitor, THT, Metallized Polyester Film)
pins: 1, 2

## CAPMF_3n9_400V_MPET
designator C?, comment 3n9
Capacitor THD Metallized PET Film 3.9nF 10% 400V; Manufacturer 1: Wing Fu Technology; Manufacturer Part Number 1: CL21-392-K-400V-7.5; Material: Metallized Polyester; Package / Case: 10.5L x 6.0W x 9.0H x 7.5mm Pitch; Tolerance: ±10%; Ratings: 400V; Value: 3n9
footprint CAPMF5.0-7.5mm_SL (Capacitor, THT, Metallized Polyester Film)
pins: 1, 2

## CAPMF_22n_250V_MK
designator C?, comment 22n
Capacitor THD MK Film 22nF 10% 250V; Manufacturer 1: Panasonic - ECG; Manufacturer Part Number 1: ECQ-E2223KF; Material: Metallized Polyester; Package / Case: 12.0L x 5.5T x 9.0H x 10.0mm Pitch; Tolerance: ±10%; Ratings: 250V; Supplier 1: Digi-Key; Supplier Part Number 1: EF2223-ND; Value: 22n
footprint CAPMF12.5x4.5x9.0x10mmLS (Capacitor, MF, Thru-Hole, Dipped Radial; Body 12.5 x 4.5 x 9.0 mm (WxTxH) Pin Spacing 10.0 mm (typ))
pins: 1, 2

## CAPMF_47n_250V_MPET_TH
designator C?, comment 47n
Capacitor THD Metallized PET Film 47nF 5% 250V; Manufacturer 1: EPCOS Inc; Manufacturer Part Number 1: B32529C3473J; Ratings: 250VDC; 160VAC; Material: Metallized Polyester; Dielectric Material: Polyester, Metallized; Package / Case: 10.5L x 6.0W x 9.0H x 7.5mm Pitch; Tolerance: ±5%; Supplier 1: Digi-Key; Supplier Part Number 1: 495-1190-ND; ESR (Equivalent Series Resistance): -; Operating Temperature: -55°C ~ 125°C; Size / Dimension: 0.284" L x 0.138" W (7.20mm x 3.50mm); Height - Seated (Max): 0.315" (8.00mm); ComponentLink1URL: http://www.epcos.com/inf/20/20/db/fc_2009/MKT_B32520_529.pdf; ComponentLink1Description: http://www.epcos.com/inf/20/20/db/fc_2009/MKT_B32520_529.pdf; Value: 47n
footprint CAPM75P1000500X1050_FLAT_Dual250V100nF (Capacitor, THT, Metallized Polyester Film with 3.5x9.5x10.0mm TxHxW)
pins: 1, 2

## CAPMF_82n_250V_MK
designator C?, comment 82n
Capacitor THD MK Film 82nF 10% 250V; Manufacturer 1: Panasonic - ECG; Manufacturer Part Number 1: ECQ-E2823KF; Material: Metallized Polyester; Package / Case: 12.0L x 5.5T x 9.0H x 10.0mm Pitch; Tolerance: ±10%; Ratings: 250V; Supplier 1: Digi-Key; Supplier Part Number 1: EF2823-ND; Value: 82n
footprint CAPMF12.5x4.5x9.0x10mmLS (Capacitor, MF, Thru-Hole, Dipped Radial; Body 12.5 x 4.5 x 9.0 mm (WxTxH) Pin Spacing 10.0 mm (typ))
pins: 1, 2

## CAPMF_100n_250V_MPET_TH
designator C?, comment 100n
Capacitor THD Metallized PET Film 100nF 10% 250V; Manufacturer 1: EPCOS Inc; Manufacturer Part Number 1: B32520C3104K; Ratings: 250VDC; 160VAC; Material: Metallized Polyester; Package / Case: 10.0L x 4.0W x 8.5H x 7.5mm Pitch; Tolerance: ±10%; Operating Temperature: -55°C ~ 125°C; ComponentLink1URL: http://www.epcos.com/inf/20/20/db/fc_2009/MKT_B32520_529.pdf; ComponentLink1Description: http://www.epcos.com/inf/20/20/db/fc_2009/MKT_B32520_529.pdf; Supplier 1: Digi-Key; Supplier Part Number 1: 495-2426-ND; Value: 100n
footprint CAPM75P1000500X1050_FLAT_Dual250V100nF (Capacitor, THT, Metallized Polyester Film with 3.5x9.5x10.0mm TxHxW)
pins: 1, 2

## CAPMF_220n_63V
designator C?, comment 220n
Capacitor, THT, metallized polyester; Manufacturer 1: SunTan; Manufacturer Part Number 1: TS03-224J-63V-7.5; Tolerance: ±5%; Ratings: 63V; Material: Metallized Polyester; Epoxy Resin; Package / Case: 10.2L x 5.0W x 7.5mm Pitch; Value: 220n
footprint CAPMF7.5mm (Capacitor, THT, Metallized Polyester Film)
pins: 1, 2

## CAPMF_220n_100V_MPR
designator C?, comment 220n
Capacitor THD MPR Film 220nF 5% 100V; Manufacturer 1: AID Electronics Corporation; Manufacturer Part Number 1: MPR224J100V; Material: Metallized Polypropylene; Package / Case: 10.0L x 8.0W x 11.0H x 7.5mm Pitch; Tolerance: ±5%; Ratings: 100V; Value: 220n
footprint CAPMF5_3.5-5.0-7.5mm (Capacitor, THT, Metallized Polyester Film, 3.5 & 5.0 & 7.5mm pitch hybrid)
pins: 1, 2

## CAPMF_470n_100V_MK
designator C?, comment 470n
Capacitor THD MK Film 470nF 10% 100V; Manufacturer 1: Panasonic - ECG; Manufacturer Part Number 1: ECQ-E1474KF; Material: Metallized Polyester; Package / Case: 12.5L x 4.5T x 9.0H x 10.0mm Pitch; Tolerance: ±10%; Ratings: 100V; Supplier 1: Digi-Key; Supplier Part Number 1: EF1474-ND; Value: 470n
footprint CAPR7.62-6.8x2.5 (Capacitor, MF, Thru-Hole, Dipped Radial; Body 6.8 x 2.5 mm (WxT) Pin Spacing 7.62 mm (typ))
pins: 1, 2

## CAPMKP_6n8_1kV_P10.0mm
designator C?, comment 6n8
Capacitor THT metallized polypropylene 6.8nF 5% 1kV 10.0mm pitch; Manufacturer 1: EPCOS Inc; Manufacturer Part Number 1: B32671L0682J000; Material: Metallized Polypropylene Film; Package / Case: 13.0x5.0x11.0x10.0mm LWHP; Tolerance: ±5%; Ratings: 1kV; Supplier 1: Digi-Key; Supplier Part Number 1: 495-3200-ND; Value: 6n8
footprint CAPMF13.0x5.0x11.0x10.0mm LxWxHxP (Capacitor, THT, Metallized Polypropylene Film, 10mm lead pitch)
pins: 1, 2

## CAPMKP_6n8_400V_P7.5mm
designator C?, comment 6n8
Capacitor THT metallized polypropylene 6.8nF 5% 400V 7.5mm pitch; Tolerance: ±10%; Material: Metallized Polypropylene Film; Package / Case: 10.0x5.5x9.0x7.5mm LTHP; Ratings: 400V; Value: 6n8
footprint CAPMF13.0x5.0x11.0x10.0mm LxWxHxP (Capacitor, THT, Metallized Polypropylene Film, 10mm lead pitch)
pins: 1, 2

## CAPR_220n_Radial_5mm
designator C?, comment value 220n  (hidden comment: approved sub OK)
Capacitor Ceramic 220nF 10% 50V X7R radial 5mm lead spacing; Manufacturer 1: TDK Corporation; Manufacturer Part Number 1: FK24X7R1H224K; Ratings: 50V; X7R; Tolerance: ±10%; Material: ceramic; Supplier 1: Digi-Key; Supplier Part Number 1: 445-2855-ND; Package / Case: 0.217" L x 0.177" W (5.50mm x 4.50mm) radial 5mm LS; Operating Temperature: -55°C ~ 125°C; ComponentLink1URL: http://www.tdk.co.jp/tefe02/e4941_fk.pdf; ComponentLink1Description: e4941_fk datasheet
footprint CAPC2012N (Chip Capacitor, Body 2.0x1.2mm, 0805, IPC Medium Density)
pins: 1, 2

## CAPT_1u_0805_10V
designator C?, comment Ratings: 10V  (hidden comment: 1µ)
Capacitor SMD Tantalum 1uF 20% 10V 0805; Manufacturer 1: AVX Corporation; Manufacturer Part Number 1: TAJP106M010RNJ; Manufacturer Size Code: P; ESR (Equivalent Series Resistance): 6.000 Ohm; Type: Molded; Package / Case: 0805 (2012 metric); Tolerance: ±20%; Material: Tantalum; Supplier 1: Digi-Key; Supplier Part Number 1: 478-3281-1-ND; Operating Temperature: -55°C ~ 125°C; Size / Dimension: 0.081" L x 0.053" W (2.05mm x 1.35mm); Height - Seated (Max): 0.059" (1.50mm); ComponentLink1URL: http://www.avx.com/docs/Catalogs/tajlp.pdf; ComponentLink1Description: http://www.avx.com/docs/Catalogs/tajlp.pdf; Value: 1µ
footprint CAPMP2012X150USR (Molded body capacitor, Body 2.0x1.2mm, 0805, IPC Medium Density)
pins: 1, 2

## CAPT_1u_6032_50V
designator C?, comment 1µ
Capacitor SMD Tantalum 1uF 10% 50V EIA 6032-28; Manufacturer: Vishay/Sprague; Manufacturer Part Number: 293D105X9050C2TE3; Package / Case: EIA 6032-28; Ratings: 50V; Tolerance: ±10%; Material: Tantalum; Supplier 1: Digi-Key; Supplier Part Number 1: 718-1041-1-ND; Value: 1µ
footprint CAPMP6032X280N (Capacitor, polarized, Molded Body, EIA 535BAAC size C; 6.00mm L X 3.20mm W X 2.80mm H)
pins: 1, 2

## CAPT_4u7_3216_16V
designator C?, comment 4µ7
Capacitor SMD Tantalum 4.7uF 10% 16V 3216-18; Manufacturer 1: Vishay/Sprague; Manufacturer Part Number 1: 293D475X9016A2TE3; Package / Case: EIA 535BAAC size A; Ratings: 16V; Tolerance: ±10%; Material: Tantalum; Supplier 1: Digi-Key; Supplier Part Number 1: 718-1148-1-ND; Value: 4µ7
footprint CAPMP3216X180N (Capacitor, polarized, Molded Body, EIA 535BAAC size A; 3.20mm L X 1.60mm W X 1.80mm H)
pins: 1, 2

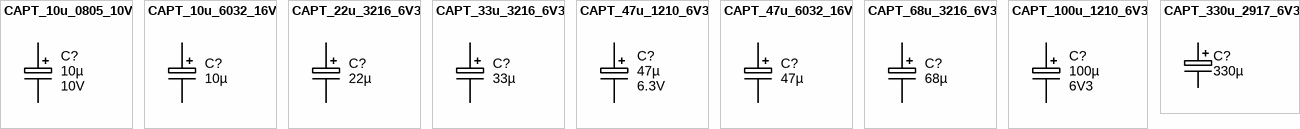
[diagram p2: symbols CAPT_10u_0805_10V to CAPT_330u_2917_6V3]

## CAPT_10u_0805_10V
designator C?, comment Ratings: 10V  (hidden comment: 10µ)
Capacitor SMD Tantalum 10uF 20% 10V 0805; Manufacturer 1: AVX Corporation; Manufacturer Part Number 1: TAJP106M010RNJ; Package / Case: 0805 (2012 metric); Tolerance: ±20%; Material: Tantalum; Supplier 1: Digi-Key; Supplier Part Number 1: 478-3281-1-ND; Value: 10µ
footprint CAPMP2012X150USR (Molded body capacitor, Body 2.0x1.2mm, 0805, IPC Medium Density)
pins: 1, 2

## CAPT_10u_6032_16V
designator C?, comment 10µ
Capacitor SMD Tantalum 10uF 20% 16V EIA 6032-28; Manufacturer 1: Vishay/Sprague; Manufacturer Part Number 1: 293D106X0016C2TE3; Package / Case: EIA 6032-28; Ratings: 16V; Tolerance: ±20%; Material: Tantalum; Supplier 1: Digi-Key; Supplier Part Number 1: 718-1042-1-ND; Value: 10µ
footprint CAPMP6032X280N (Capacitor, polarized, Molded Body, EIA 535BAAC size C; 6.00mm L X 3.20mm W X 2.80mm H)
pins: 1, 2

## CAPT_22u_3216_6V3
designator C?, comment 22µ
Capacitor SMD Tantalum 22uF 10% 6.3V 3216-18; Manufacturer 1: Kemet; Manufacturer Part Number 1: T491A226K006AT; Material: Solid Tantalum; Package / Case: EIA 535BAAC size A; Ratings: 6.3V; Link: http://www.kemet.com/kemet/web/homepage/kechome.nsf/file/T491%20Series/$file/F3102_T491.pdf; Tolerance: ±10%; Value: 22µ
footprint CAPMP3216X180N (Capacitor, polarized, Molded Body, EIA 535BAAC size A; 3.20mm L X 1.60mm W X 1.80mm H)
pins: 1, 2

## CAPT_33u_3216_6V3
designator C?, comment 33µ
Capacitor SMD Tantalum 33uF 10% 6.3V 3216-18; Manufacturer 1: Kemet; Manufacturer Part Number 1: T491A336K006AT; Material: Solid Tantalum; Package / Case: EIA 535BAAC size A; Ratings: 6.3V; Link: http://www.kemet.com/kemet/web/homepage/kechome.nsf/file/T491%20Series/$file/F3102_T491.pdf; Tolerance: ±10%; Value: 33µ
footprint CAPMP3216X180N (Capacitor, polarized, Molded Body, EIA 535BAAC size A; 3.20mm L X 1.60mm W X 1.80mm H)
pins: 1, 2

## CAPT_47u_1210_6V3
designator C?, comment Ratings: 6.3V  (hidden comment: 47µ)
Capacitor SMD Tantalum 47uF 20% 6.3V 1210; Manufacturer 1: AVX Corporation; Manufacturer Part Number 1: TCJB476M006R0070; Manufacturer Size Code: B; Voltage - Rated: 6V3; ESR (Equivalent Series Resistance): 70.0 mOhm; Type: Molded; Package / Case: 1210 (3528 Metric); Tolerance: ±20%; Material: Tantalum; Supplier 1: Digi-Key; Supplier Part Number 1: 478-3139-1-ND; Operating Temperature: -55°C ~ 125°C; Size / Dimension: 0.138" L x 0.110" W (3.50mm x 2.80mm); Height - Seated (Max): 0.083" (2.10mm); ComponentLink1URL: http://www.avx.com/docs/Catalogs/tcj.pdf; ComponentLink1Description: http://www.avx.com/docs/Catalogs/tcj.pdf; Value: 47µ
footprint CAPMP3528X210N (Molded body capacitor, Body 3.5x2.8mm, 1210, IPC Nominal settings)
pins: 1, 2

## CAPT_47u_6032_16V
designator C?, comment 47µ
Capacitor SMD Tantalum 47uF 10% 16V 6032-28; Manufacturer 1: Vishay/Sprague; Manufacturer Part Number 1: TR3C476K016C0300; Package / Case: EIA 535BAAC size C; Ratings: 16V; Tolerance: ±10%; Material: Tantalum; Supplier 1: Digi-Key; Supplier Part Number 1: 718-1332-1-ND; Value: 47µ
footprint CAPMP6032X280N (Capacitor, polarized, Molded Body, EIA 535BAAC size C; 6.00mm L X 3.20mm W X 2.80mm H)
pins: 1, 2

## CAPT_68u_3216_6V3
designator C?, comment 68µ
Capacitor SMD Tantalum 68uF 10% 6.3V EIA 3216-18; Manufacturer 1: Kemet; Manufacturer Part Number 1: T491A686K006AT; Manufacturer Size Code: A; Material: Solid Tantalum; ESR (Equivalent Series Resistance): 4.000 Ohm; Package / Case: 1206 (3216 Metric); Ratings: 6.3V; Tolerance: ±10%; Supplier 1: Digi-Key; Supplier Part Number 1: 399-4698-1-ND; Operating Temperature: -55°C ~ 125°C; Size / Dimension: 0.126" L x 0.063" W (3.20mm x 1.60mm); Height - Seated (Max): 0.071" (1.80mm); ComponentLink1URL: http://www.kemet.com/datasheets&T491A686K006AT; ComponentLink1Description: http://www.kemet.com/datasheets&T491A686K006AT; Value: 68µ
footprint CAPMP3216X180N (Capacitor, polarized, Molded Body, EIA 535BAAC size A; 3.20mm L X 1.60mm W X 1.80mm H)
pins: 1, 2